# Altium footprint library PCB - CONNECTOR - WURTH 7499021125.PCBLIB: 1 footprints
Each footprint in its own frame and in the unit in brackets; x right, y up, seen from the top. Pads: shape width x height; smd on the part's side, far side on the other; paste and mask are expansions set on the pad; w line width, h text height; cw(c..) or ccw(c..) is an arc to the next point about the centre after c.
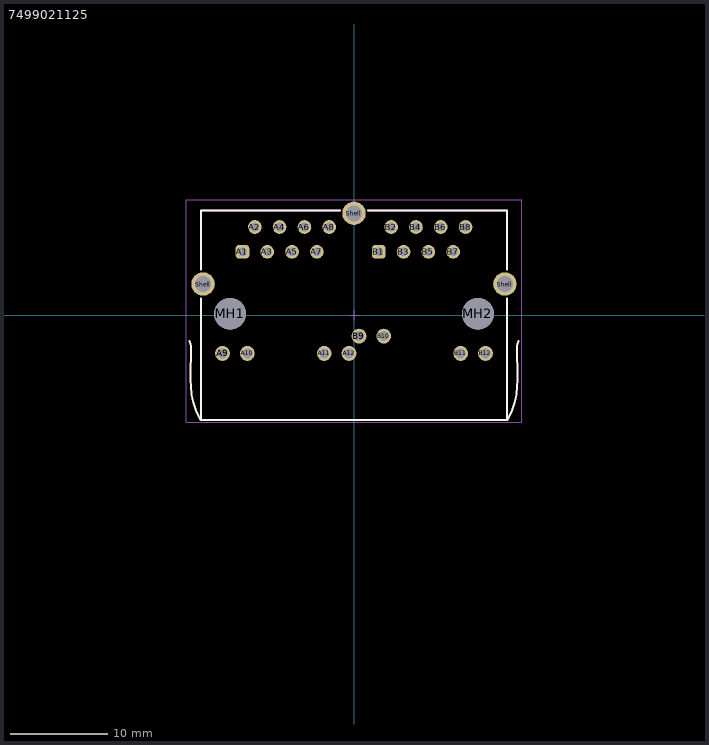
[diagram p0: the footprint, top view; thin cyan lines are the x and y axes]

## 7499021125 [mm] "LAN Transformer, body 31.4x21.5mm"
height 15.21
pads (29):
  rrect50% 1.4x1.4 hole 0.89: A1(-11.43,6.5) B1(2.54,6.5)
  round 1.4 hole 0.89: A2(-10.16,9.04) A3(-8.89,6.5) A4(-7.62,9.04) A5(-6.35,6.5) A6(-5.08,9.04) A7(-3.81,6.5) A8(-2.54,9.04) B2(3.81,9.04) B3(5.08,6.5) B4(6.35,9.04) B5(7.62,6.5) B6(8.89,9.04) B7(10.16,6.5) B8(11.43,9.04)
  round 1.52 hole 1.02: A9(-13.47,-3.91) A10(-10.93,-3.91) A11(-3.05,-3.91) A12(-0.51,-3.91) B9(0.51,-2.14) B10(3.05,-2.14) B11(10.93,-3.91) B12(13.47,-3.91)
  round 3.25 hole 3.25 unplated: MH1(-12.7,0.15) MH2(12.7,0.15)
  round 2.4 hole 1.63: Shell(-15.465,3.2) Shell(0,10.44) Shell(15.465,3.2)
Top Overlay:
  lines w0.2: -16.862,-2.641 cw(c-17.973,-3.253) -16.706,-3.31 -16.713,-4.722 ccw(c-13.098,-5.162) -16.74,-5.192 ccw(c7.924,-6.02) -16.669,-8.064 ccw(c-8.25,-6.545) -15.7,-10.75 ; -15.7,1.7 -15.7,-10.75 ; -15.7,4.7 -15.7,10.75 -1.45,10.75 ; 1.45,10.75 15.7,10.75 15.7,4.7 ; 15.7,1.7 15.7,-10.75 ; 16.862,-2.641 ccw(c17.973,-3.253) 16.706,-3.31 16.713,-4.722 cw(c13.098,-5.162) 16.74,-5.192 cw(c-7.924,-6.02) 16.669,-8.064 cw(c8.25,-6.545) 15.7,-10.75 ; -15.7,-10.75 15.7,-10.75
Top Assembly:
  lines w0.2: -15.7,1.7 -15.7,-10.75 15.7,-10.75 15.7,1.7 ; -15.7,4.7 -15.7,10.75 -1.45,10.75 ; 1.45,10.75 15.7,10.75 15.7,4.7
Top Courtyard:
  lines w0.05: -17.2,-10.95 -17.2,11.84 17.2,11.84 17.2,-10.95 -17.2,-10.95
Top Designator:
  text ".Designator" at -6.998,12.6 h1.5
Top Component Center:
  lines w0.05: -0.5,0 0.5,0 ; 0,-0.5 0,0.5
3D body "7499021125.stp": height 14.81, standoff -3.66, extent -16.923,-10.75 16.923,10.75